# Altium schematic symbol library TE_SPST_RELAY_FORM_A.SchLib: 1 symbol
Pins are listed as number, name and electrical type; pins without a type are passive.

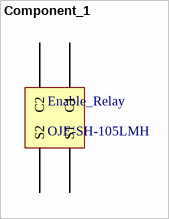
[diagram p0: symbol Component_1]

## Component_1
designator Enable_Relay, comment OJE-SH-105LMH
Voltage 30VDC - Switching Current 8A, Coil Voltage 5V
pins: 6 S1, 7 S2, 8 C1, 9 C2